# Altium schematic symbol library AUIR3313STRL.SchLib: 1 symbol
Pins are listed as number, name and electrical type; pins without a type are passive.

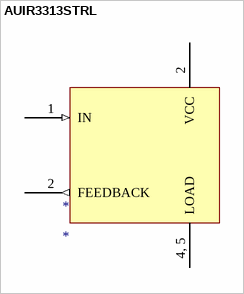
[diagram p0: symbol AUIR3313STRL]

## AUIR3313STRL
designator *
pins: 1 IN (in), 2 FEEDBACK (out), 2 VCC, 4, 5 LOAD